# Altium integrated library Altium_WCAP-CSGP (rev20a).IntLib: 939 symbols (part 12 of 16)
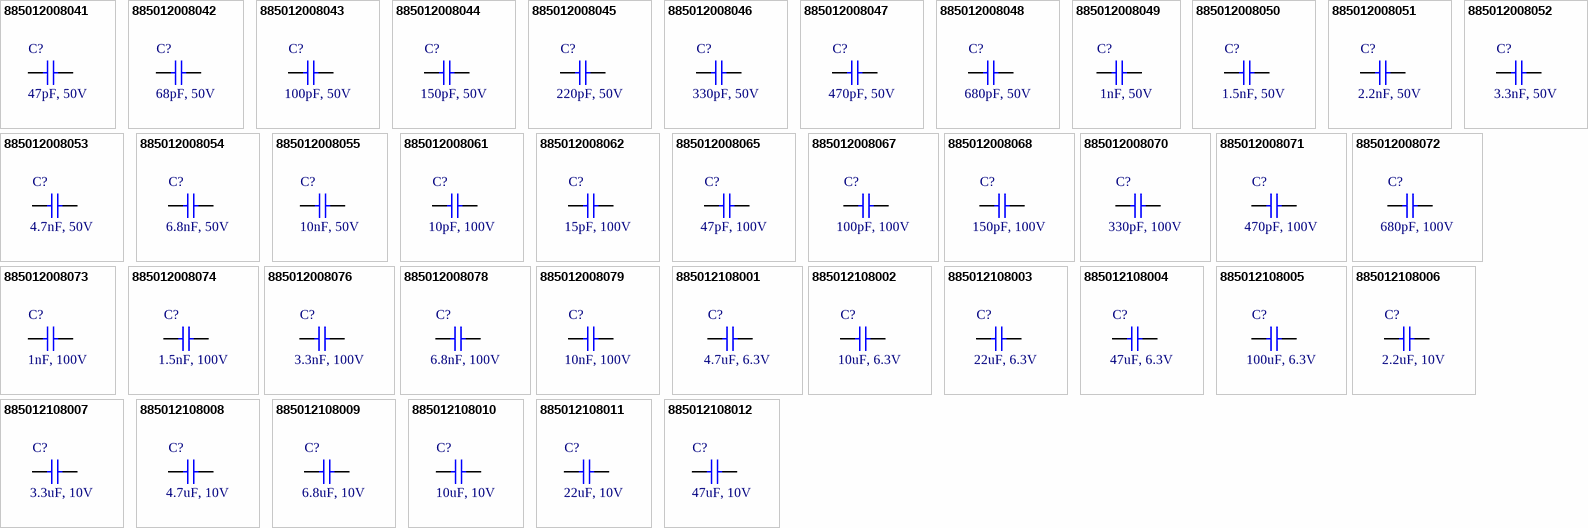
[diagram p38: symbols 885012008041 to 885012108012]

## 885012008054
designator C?, comment 6.8nF, 50V
WCAP-CSGP Multilayer Ceramic Chip Capacitor, General Purpose, size 1206, NP0, 6.8nF, 50V; Manufacturer Part Number: 885012008054; Manufacturer: Wurth Elektronik; Rated Voltage: 50VDC; Isolation Resistance: >=10GOhm; Capacitance Tolerance: +/-5%; Dissipation Factor: Q>=1000; Technical Reference: NP01206682J050DFCT10000; ComponentLink1Description: Manufacturer; ComponentLink1URL: http://www.we-online.de; ComponentLink2Description: Datasheet; ComponentLink2URL: https://www.we-online.com/catalog/datasheet/885012008054.pdf; Operating Temperature: -55 to +125degC; Packaging: Tape and Reel; Published Date: May 2020; Ceramic Type: NP0; Height: 0.95mm; Mounting Technology: SMT; Size: 1206; Capacitance: 6.8nF
footprint WCAP-CSGP_1206_H=0.95mm
pins: 1, 2

## 885012008055
designator C?, comment 10nF, 50V
WCAP-CSGP Multilayer Ceramic Chip Capacitor, General Purpose, size 1206, NP0, 10nF, 50V; Manufacturer Part Number: 885012008055; Manufacturer: Wurth Elektronik; Rated Voltage: 50VDC; Isolation Resistance: >=10GOhm; Capacitance Tolerance: +/-5%; Dissipation Factor: Q>=1000; Technical Reference: NP01206103J050DFCT10000; ComponentLink1Description: Manufacturer; ComponentLink1URL: http://www.we-online.de; ComponentLink2Description: Datasheet; ComponentLink2URL: https://www.we-online.com/catalog/datasheet/885012008055.pdf; Operating Temperature: -55 to +125degC; Packaging: Tape and Reel; Published Date: May 2020; Ceramic Type: NP0; Height: 1.25mm; Mounting Technology: SMT; Size: 1206; Capacitance: 10nF
footprint WCAP-CSGP_1206_H=1.25mm
pins: 1, 2

## 885012008061
designator C?, comment 10pF, 100V
WCAP-CSGP Multilayer Ceramic Chip Capacitor, General Purpose, size 1206, NP0, 10pF, 100V; Manufacturer Part Number: 885012008061; Manufacturer: Wurth Elektronik; Rated Voltage: 100VDC; Isolation Resistance: >=10GOhm; Capacitance Tolerance: +/-5%; Dissipation Factor: Q>=400+20C; Technical Reference: NP01206100J100DFCT10000; ComponentLink1Description: Manufacturer; ComponentLink1URL: http://www.we-online.de; ComponentLink2Description: Datasheet; ComponentLink2URL: https://www.we-online.com/catalog/datasheet/885012008061.pdf; Operating Temperature: -55 to +125degC; Packaging: Tape and Reel; Published Date: May 2020; Ceramic Type: NP0; Height: 0.8mm; Mounting Technology: SMT; Size: 1206; Capacitance: 10pF
footprint WCAP-CSGP_1206_H=0.8mm
pins: 1, 2

## 885012008062
designator C?, comment 15pF, 100V
WCAP-CSGP Multilayer Ceramic Chip Capacitor, General Purpose, size 1206, NP0, 15pF, 100V; Manufacturer Part Number: 885012008062; Manufacturer: Wurth Elektronik; Rated Voltage: 100VDC; Isolation Resistance: >=10GOhm; Capacitance Tolerance: +/-5%; Dissipation Factor: Q>=400+20C; Technical Reference: NP01206150J100DFCT10000; ComponentLink1Description: Manufacturer; ComponentLink1URL: http://www.we-online.de; ComponentLink2Description: Datasheet; ComponentLink2URL: https://www.we-online.com/catalog/datasheet/885012008062.pdf; Operating Temperature: -55 to +125degC; Packaging: Tape and Reel; Published Date: May 2020; Ceramic Type: NP0; Height: 0.8mm; Mounting Technology: SMT; Size: 1206; Capacitance: 15pF
footprint WCAP-CSGP_1206_H=0.8mm
pins: 1, 2

## 885012008065
designator C?, comment 47pF, 100V
WCAP-CSGP Multilayer Ceramic Chip Capacitor, General Purpose, size 1206, NP0, 47pF, 100V; Manufacturer Part Number: 885012008065; Manufacturer: Wurth Elektronik; Rated Voltage: 100VDC; Isolation Resistance: >=10GOhm; Capacitance Tolerance: +/-5%; Dissipation Factor: Q>=1000; Technical Reference: NP01206470J100DFCT10000; ComponentLink1Description: Manufacturer; ComponentLink1URL: http://www.we-online.de; ComponentLink2Description: Datasheet; ComponentLink2URL: https://www.we-online.com/catalog/datasheet/885012008065.pdf; Operating Temperature: -55 to +125degC; Packaging: Tape and Reel; Published Date: May 2020; Ceramic Type: NP0; Height: 0.8mm; Mounting Technology: SMT; Size: 1206; Capacitance: 47pF
footprint WCAP-CSGP_1206_H=0.8mm
pins: 1, 2

## 885012008067
designator C?, comment 100pF, 100V
WCAP-CSGP Multilayer Ceramic Chip Capacitor, General Purpose, size 1206, NP0, 100pF, 100V; Manufacturer Part Number: 885012008067; Manufacturer: Wurth Elektronik; Rated Voltage: 100VDC; Isolation Resistance: >=10GOhm; Capacitance Tolerance: +/-5%; Dissipation Factor: Q>=1000; Technical Reference: NP01206101J100DFCT10000; ComponentLink1Description: Manufacturer; ComponentLink1URL: http://www.we-online.de; ComponentLink2Description: Datasheet; ComponentLink2URL: https://www.we-online.com/catalog/datasheet/885012008067.pdf; Operating Temperature: -55 to +125degC; Packaging: Tape and Reel; Published Date: May 2020; Ceramic Type: NP0; Height: 0.8mm; Mounting Technology: SMT; Size: 1206; Capacitance: 100pF
footprint WCAP-CSGP_1206_H=0.8mm
pins: 1, 2

## 885012008068
designator C?, comment 150pF, 100V
WCAP-CSGP Multilayer Ceramic Chip Capacitor, General Purpose, size 1206, NP0, 150pF, 100V; Manufacturer Part Number: 885012008068; Manufacturer: Wurth Elektronik; Rated Voltage: 100VDC; Isolation Resistance: >=10GOhm; Capacitance Tolerance: +/-5%; Dissipation Factor: Q>=1000; Technical Reference: NP01206151J100DFCT10000; ComponentLink1Description: Manufacturer; ComponentLink1URL: http://www.we-online.de; ComponentLink2Description: Datasheet; ComponentLink2URL: https://www.we-online.com/catalog/datasheet/885012008068.pdf; Operating Temperature: -55 to +125degC; Packaging: Tape and Reel; Published Date: May 2020; Ceramic Type: NP0; Height: 0.8mm; Mounting Technology: SMT; Size: 1206; Capacitance: 150pF
footprint WCAP-CSGP_1206_H=0.8mm
pins: 1, 2

## 885012008070
designator C?, comment 330pF, 100V
WCAP-CSGP Multilayer Ceramic Chip Capacitor, General Purpose, size 1206, NP0, 330pF, 100V; Manufacturer Part Number: 885012008070; Manufacturer: Wurth Elektronik; Rated Voltage: 100VDC; Isolation Resistance: >=10GOhm; Capacitance Tolerance: +/-5%; Dissipation Factor: Q>=1000; Technical Reference: NP01206331J100DFCT10000; ComponentLink1Description: Manufacturer; ComponentLink1URL: http://www.we-online.de; ComponentLink2Description: Datasheet; ComponentLink2URL: https://www.we-online.com/catalog/datasheet/885012008070.pdf; Operating Temperature: -55 to +125degC; Packaging: Tape and Reel; Published Date: May 2020; Ceramic Type: NP0; Height: 0.8mm; Mounting Technology: SMT; Size: 1206; Capacitance: 330pF
footprint WCAP-CSGP_1206_H=0.8mm
pins: 1, 2

## 885012008071
designator C?, comment 470pF, 100V
WCAP-CSGP Multilayer Ceramic Chip Capacitor, General Purpose, size 1206, NP0, 470pF, 100V; Manufacturer Part Number: 885012008071; Manufacturer: Wurth Elektronik; Rated Voltage: 100VDC; Isolation Resistance: >=10GOhm; Capacitance Tolerance: +/-5%; Dissipation Factor: Q>=1000; Technical Reference: NP01206471J100DFCT10000; ComponentLink1Description: Manufacturer; ComponentLink1URL: http://www.we-online.de; ComponentLink2Description: Datasheet; ComponentLink2URL: https://www.we-online.com/catalog/datasheet/885012008071.pdf; Operating Temperature: -55 to +125degC; Packaging: Tape and Reel; Published Date: May 2020; Ceramic Type: NP0; Height: 0.8mm; Mounting Technology: SMT; Size: 1206; Capacitance: 470pF
footprint WCAP-CSGP_1206_H=0.8mm
pins: 1, 2

## 885012008072
designator C?, comment 680pF, 100V
WCAP-CSGP Multilayer Ceramic Chip Capacitor, General Purpose, size 1206, NP0, 680pF, 100V; Manufacturer Part Number: 885012008072; Manufacturer: Wurth Elektronik; Rated Voltage: 100VDC; Isolation Resistance: >=10GOhm; Capacitance Tolerance: +/-5%; Dissipation Factor: Q>=1000; Technical Reference: NP01206681J100DFCT10000; ComponentLink1Description: Manufacturer; ComponentLink1URL: http://www.we-online.de; ComponentLink2Description: Datasheet; ComponentLink2URL: https://www.we-online.com/catalog/datasheet/885012008072.pdf; Operating Temperature: -55 to +125degC; Packaging: Tape and Reel; Published Date: May 2020; Ceramic Type: NP0; Height: 0.8mm; Mounting Technology: SMT; Size: 1206; Capacitance: 680pF
footprint WCAP-CSGP_1206_H=0.8mm
pins: 1, 2

## 885012008073
designator C?, comment 1nF, 100V
WCAP-CSGP Multilayer Ceramic Chip Capacitor, General Purpose, size 1206, NP0, 1nF, 100V; Manufacturer Part Number: 885012008073; Manufacturer: Wurth Elektronik; Rated Voltage: 100VDC; Isolation Resistance: >=10GOhm; Capacitance Tolerance: +/-5%; Dissipation Factor: Q>=1000; Technical Reference: NP01206102J100DFCT10000; ComponentLink1Description: Manufacturer; ComponentLink1URL: http://www.we-online.de; ComponentLink2Description: Datasheet; ComponentLink2URL: https://www.we-online.com/catalog/datasheet/885012008073.pdf; Operating Temperature: -55 to +125degC; Packaging: Tape and Reel; Published Date: May 2020; Ceramic Type: NP0; Height: 0.8mm; Mounting Technology: SMT; Size: 1206; Capacitance: 1nF
footprint WCAP-CSGP_1206_H=0.8mm
pins: 1, 2

## 885012008074
designator C?, comment 1.5nF, 100V
WCAP-CSGP Multilayer Ceramic Chip Capacitor, General Purpose, size 1206, NP0, 1.5nF, 100V; Manufacturer Part Number: 885012008074; Manufacturer: Wurth Elektronik; Rated Voltage: 100VDC; Isolation Resistance: >=10GOhm; Capacitance Tolerance: +/-5%; Dissipation Factor: Q>=1000; Technical Reference: NP01206152J100DFCT10000; ComponentLink1Description: Manufacturer; ComponentLink1URL: http://www.we-online.de; ComponentLink2Description: Datasheet; ComponentLink2URL: https://www.we-online.com/catalog/datasheet/885012008074.pdf; Operating Temperature: -55 to +125degC; Packaging: Tape and Reel; Published Date: May 2020; Ceramic Type: NP0; Height: 0.8mm; Mounting Technology: SMT; Size: 1206; Capacitance: 1.5nF
footprint WCAP-CSGP_1206_H=0.8mm
pins: 1, 2

## 885012008076
designator C?, comment 3.3nF, 100V
WCAP-CSGP Multilayer Ceramic Chip Capacitor, General Purpose, size 1206, NP0, 3.3nF, 100V; Manufacturer Part Number: 885012008076; Manufacturer: Wurth Elektronik; Rated Voltage: 100VDC; Isolation Resistance: >=10GOhm; Capacitance Tolerance: +/-5%; Dissipation Factor: Q>=1000; Technical Reference: NP01206332J100DFCT10000; ComponentLink1Description: Manufacturer; ComponentLink1URL: http://www.we-online.de; ComponentLink2Description: Datasheet; ComponentLink2URL: https://www.we-online.com/catalog/datasheet/885012008076.pdf; Operating Temperature: -55 to +125degC; Packaging: Tape and Reel; Published Date: May 2020; Ceramic Type: NP0; Height: 0.8mm; Mounting Technology: SMT; Size: 1206; Capacitance: 3.3nF
footprint WCAP-CSGP_1206_H=0.8mm
pins: 1, 2

## 885012008078
designator C?, comment 6.8nF, 100V
WCAP-CSGP Multilayer Ceramic Chip Capacitor, General Purpose, size 1206, NP0, 6.8nF, 100V; Manufacturer Part Number: 885012008078; Manufacturer: Wurth Elektronik; Rated Voltage: 100VDC; Isolation Resistance: >=10GOhm; Capacitance Tolerance: +/-5%; Dissipation Factor: Q>=1000; Technical Reference: NP01206682J100DFCT10000; ComponentLink1Description: Manufacturer; ComponentLink1URL: http://www.we-online.de; ComponentLink2Description: Datasheet; ComponentLink2URL: https://www.we-online.com/catalog/datasheet/885012008078.pdf; Operating Temperature: -55 to +125degC; Packaging: Tape and Reel; Published Date: May 2020; Ceramic Type: NP0; Height: 0.95mm; Mounting Technology: SMT; Size: 1206; Capacitance: 6.8nF
footprint WCAP-CSGP_1206_H=0.95mm
pins: 1, 2

## 885012008079
designator C?, comment 10nF, 100V
WCAP-CSGP Multilayer Ceramic Chip Capacitor, General Purpose, size 1206, NP0, 10nF, 100V; Manufacturer Part Number: 885012008079; Manufacturer: Wurth Elektronik; Rated Voltage: 100VDC; Isolation Resistance: >=10GOhm; Capacitance Tolerance: +/-5%; Dissipation Factor: Q>=1000; Technical Reference: NP01206103J100DFCT10000; ComponentLink1Description: Manufacturer; ComponentLink1URL: http://www.we-online.de; ComponentLink2Description: Datasheet; ComponentLink2URL: https://www.we-online.com/catalog/datasheet/885012008079.pdf; Operating Temperature: -55 to +125degC; Packaging: Tape and Reel; Published Date: May 2020; Ceramic Type: NP0; Height: 1.25mm; Mounting Technology: SMT; Size: 1206; Capacitance: 10nF
footprint WCAP-CSGP_1206_H=1.25mm
pins: 1, 2

## 885012108001
designator C?, comment 4.7uF, 6.3V
WCAP-CSGP Multilayer Ceramic Chip Capacitor, General Purpose, size 1206, X5R, 4.7uF, 6.3V; Manufacturer Part Number: 885012108001; Manufacturer: Wurth Elektronik; Rated Voltage: 6.3VDC; Isolation Resistance: >=0.02GOhm; Capacitance Tolerance: +/-20%; Technical Reference: X5R1206475M6R3DFCT10000; ComponentLink1Description: Manufacturer; ComponentLink1URL: http://www.we-online.de; ComponentLink2Description: Datasheet; ComponentLink2URL: https://www.we-online.com/catalog/datasheet/885012108001.pdf; Operating Temperature: -55 to +85degC; Packaging: Tape and Reel; Published Date: May 2020; Ceramic Type: X5R; Dissipation Factor: =<10%; Height: 1.6mm; Mounting Technology: SMT; Size: 1206; Capacitance: 4.7uF
footprint WCAP-CSGP_1206_H=1.6mm
pins: 1, 2

## 885012108002
designator C?, comment 10uF, 6.3V
WCAP-CSGP Multilayer Ceramic Chip Capacitor, General Purpose, size 1206, X5R, 10uF, 6.3V; Manufacturer Part Number: 885012108002; Manufacturer: Wurth Elektronik; Rated Voltage: 6.3VDC; Isolation Resistance: >=0.005GOhm; Capacitance Tolerance: +/-20%; Technical Reference: X5R1206106M6R3DFCT10000; ComponentLink1Description: Manufacturer; ComponentLink1URL: http://www.we-online.de; ComponentLink2Description: Datasheet; ComponentLink2URL: https://www.we-online.com/catalog/datasheet/885012108002.pdf; Operating Temperature: -55 to +85degC; Packaging: Tape and Reel; Published Date: May 2020; Ceramic Type: X5R; Dissipation Factor: =<10%; Height: 1.6mm; Mounting Technology: SMT; Size: 1206; Capacitance: 10uF
footprint WCAP-CSGP_1206_H=1.6mm
pins: 1, 2

## 885012108003
designator C?, comment 22uF, 6.3V
WCAP-CSGP Multilayer Ceramic Chip Capacitor, General Purpose, size 1206, X5R, 22uF, 6.3V; Manufacturer Part Number: 885012108003; Manufacturer: Wurth Elektronik; Rated Voltage: 6.3VDC; Isolation Resistance: >=0.002GOhm; Capacitance Tolerance: +/-20%; Technical Reference: X5R1206226M6R3DFCT10000; ComponentLink1Description: Manufacturer; ComponentLink1URL: http://www.we-online.de; ComponentLink2Description: Datasheet; ComponentLink2URL: https://www.we-online.com/catalog/datasheet/885012108003.pdf; Operating Temperature: -55 to +85degC; Packaging: Tape and Reel; Published Date: May 2020; Ceramic Type: X5R; Dissipation Factor: =<10%; Height: 1.6mm; Mounting Technology: SMT; Size: 1206; Capacitance: 22uF
footprint WCAP-CSGP_1206_H=1.6mm
pins: 1, 2

## 885012108004
designator C?, comment 47uF, 6.3V
WCAP-CSGP Multilayer Ceramic Chip Capacitor, General Purpose, size 1206, X5R, 47uF, 6.3V; Manufacturer Part Number: 885012108004; Manufacturer: Wurth Elektronik; Rated Voltage: 6.3VDC; Isolation Resistance: >=0.002GOhm; Capacitance Tolerance: +/-20%; Technical Reference: X5R1206476M6R3DFCT10000; ComponentLink1Description: Manufacturer; ComponentLink1URL: http://www.we-online.de; ComponentLink2Description: Datasheet; ComponentLink2URL: https://www.we-online.com/catalog/datasheet/885012108004.pdf; Operating Temperature: -55 to +85degC; Packaging: Tape and Reel; Published Date: May 2020; Ceramic Type: X5R; Dissipation Factor: =<10%; Height: 1.6mm; Mounting Technology: SMT; Size: 1206; Capacitance: 47uF
footprint WCAP-CSGP_1206_H=1.6mm
pins: 1, 2

## 885012108005
designator C?, comment 100uF, 6.3V
WCAP-CSGP Multilayer Ceramic Chip Capacitor, General Purpose, size 1206, X5R, 100uF, 6.3V; Manufacturer Part Number: 885012108005; Manufacturer: Wurth Elektronik; Rated Voltage: 6.3VDC; Isolation Resistance: >=0.001GOhm; Capacitance Tolerance: +/-20%; Technical Reference: X5R1206107M6R3DFCT10000; ComponentLink1Description: Manufacturer; ComponentLink1URL: http://www.we-online.de; ComponentLink2Description: Datasheet; ComponentLink2URL: https://www.we-online.com/catalog/datasheet/885012108005.pdf; Operating Temperature: -55 to +85degC; Packaging: Tape and Reel; Published Date: May 2020; Ceramic Type: X5R; Dissipation Factor: =<10%; Height: 1.6mm; Mounting Technology: SMT; Size: 1206; Capacitance: 100uF
footprint WCAP-CSGP_1206_H=1.6mm
pins: 1, 2

## 885012108006
designator C?, comment 2.2uF, 10V
WCAP-CSGP Multilayer Ceramic Chip Capacitor, General Purpose, size 1206, X5R, 2.2uF, 10V; Manufacturer Part Number: 885012108006; Manufacturer: Wurth Elektronik; Rated Voltage: 10VDC; Isolation Resistance: >=0.2GOhm; Capacitance Tolerance: +/-20%; Technical Reference: X5R1206225M010DFCT10000; ComponentLink1Description: Manufacturer; ComponentLink1URL: http://www.we-online.de; ComponentLink2Description: Datasheet; ComponentLink2URL: https://www.we-online.com/catalog/datasheet/885012108006.pdf; Operating Temperature: -55 to +85degC; Packaging: Tape and Reel; Published Date: May 2020; Ceramic Type: X5R; Dissipation Factor: =<10%; Height: 1.15mm; Mounting Technology: SMT; Size: 1206; Capacitance: 2.2uF
footprint WCAP-CSGP_1206_H=1.15mm
pins: 1, 2

## 885012108007
designator C?, comment 3.3uF, 10V
WCAP-CSGP Multilayer Ceramic Chip Capacitor, General Purpose, size 1206, X5R, 3.3uF, 10V; Manufacturer Part Number: 885012108007; Manufacturer: Wurth Elektronik; Rated Voltage: 10VDC; Isolation Resistance: >=0.2GOhm; Capacitance Tolerance: +/-20%; Technical Reference: X5R1206335M010DFCT10000; ComponentLink1Description: Manufacturer; ComponentLink1URL: http://www.we-online.de; ComponentLink2Description: Datasheet; ComponentLink2URL: https://www.we-online.com/catalog/datasheet/885012108007.pdf; Operating Temperature: -55 to +85degC; Packaging: Tape and Reel; Published Date: May 2020; Ceramic Type: X5R; Dissipation Factor: =<10%; Height: 1.6mm; Mounting Technology: SMT; Size: 1206; Capacitance: 3.3uF
footprint WCAP-CSGP_1206_H=1.6mm
pins: 1, 2

## 885012108008
designator C?, comment 4.7uF, 10V
WCAP-CSGP Multilayer Ceramic Chip Capacitor, General Purpose, size 1206, X5R, 4.7uF, 10V; Manufacturer Part Number: 885012108008; Manufacturer: Wurth Elektronik; Rated Voltage: 10VDC; Isolation Resistance: >=0.02GOhm; Capacitance Tolerance: +/-20%; Technical Reference: X5R1206475M010DFCT10000; ComponentLink1Description: Manufacturer; ComponentLink1URL: http://www.we-online.de; ComponentLink2Description: Datasheet; ComponentLink2URL: https://www.we-online.com/catalog/datasheet/885012108008.pdf; Operating Temperature: -55 to +85degC; Packaging: Tape and Reel; Published Date: May 2020; Ceramic Type: X5R; Dissipation Factor: =<10%; Height: 1.6mm; Mounting Technology: SMT; Size: 1206; Capacitance: 4.7uF
footprint WCAP-CSGP_1206_H=1.6mm
pins: 1, 2

## 885012108009
designator C?, comment 6.8uF, 10V
WCAP-CSGP Multilayer Ceramic Chip Capacitor, General Purpose, size 1206, X5R, 6.8uF, 10V; Manufacturer Part Number: 885012108009; Manufacturer: Wurth Elektronik; Rated Voltage: 10VDC; Isolation Resistance: >=0.02GOhm; Capacitance Tolerance: +/-20%; Technical Reference: X5R1206685M010DFCT10000; ComponentLink1Description: Manufacturer; ComponentLink1URL: http://www.we-online.de; ComponentLink2Description: Datasheet; ComponentLink2URL: https://www.we-online.com/catalog/datasheet/885012108009.pdf; Operating Temperature: -55 to +85degC; Packaging: Tape and Reel; Published Date: May 2020; Ceramic Type: X5R; Dissipation Factor: =<10%; Height: 1.6mm; Mounting Technology: SMT; Size: 1206; Capacitance: 6.8uF
footprint WCAP-CSGP_1206_H=1.6mm
pins: 1, 2

## 885012108010
designator C?, comment 10uF, 10V
WCAP-CSGP Multilayer Ceramic Chip Capacitor, General Purpose, size 1206, X5R, 10uF, 10V; Manufacturer Part Number: 885012108010; Manufacturer: Wurth Elektronik; Rated Voltage: 10VDC; Isolation Resistance: >=0.01GOhm; Capacitance Tolerance: +/-20%; Technical Reference: X5R1206106M010DFCT10000; ComponentLink1Description: Manufacturer; ComponentLink1URL: http://www.we-online.de; ComponentLink2Description: Datasheet; ComponentLink2URL: https://www.we-online.com/catalog/datasheet/885012108010.pdf; Operating Temperature: -55 to +85degC; Packaging: Tape and Reel; Published Date: May 2020; Ceramic Type: X5R; Dissipation Factor: =<10%; Height: 1.6mm; Mounting Technology: SMT; Size: 1206; Capacitance: 10uF
footprint WCAP-CSGP_1206_H=1.6mm
pins: 1, 2

## 885012108011
designator C?, comment 22uF, 10V
WCAP-CSGP Multilayer Ceramic Chip Capacitor, General Purpose, size 1206, X5R, 22uF, 10V; Manufacturer Part Number: 885012108011; Manufacturer: Wurth Elektronik; Rated Voltage: 10VDC; Isolation Resistance: >=0.005GOhm; Capacitance Tolerance: +/-20%; Technical Reference: X5R1206226M010DFCT10000; ComponentLink1Description: Manufacturer; ComponentLink1URL: http://www.we-online.de; ComponentLink2Description: Datasheet; ComponentLink2URL: https://www.we-online.com/catalog/datasheet/885012108011.pdf; Operating Temperature: -55 to +85degC; Packaging: Tape and Reel; Published Date: May 2020; Ceramic Type: X5R; Dissipation Factor: =<10%; Height: 1.6mm; Mounting Technology: SMT; Size: 1206; Capacitance: 22uF
footprint WCAP-CSGP_1206_H=1.6mm
pins: 1, 2

## 885012108012
designator C?, comment 47uF, 10V
WCAP-CSGP Multilayer Ceramic Chip Capacitor, General Purpose, size 1206, X5R, 47uF, 10V; Manufacturer Part Number: 885012108012; Manufacturer: Wurth Elektronik; Rated Voltage: 10VDC; Isolation Resistance: >=0.002GOhm; Capacitance Tolerance: +/-20%; Technical Reference: X5R1206476M010DFCT10000; ComponentLink1Description: Manufacturer; ComponentLink1URL: http://www.we-online.de; ComponentLink2Description: Datasheet; ComponentLink2URL: https://www.we-online.com/catalog/datasheet/885012108012.pdf; Operating Temperature: -55 to +85degC; Packaging: Tape and Reel; Published Date: May 2020; Ceramic Type: X5R; Dissipation Factor: =<10%; Height: 1.6mm; Mounting Technology: SMT; Size: 1206; Capacitance: 47uF
footprint WCAP-CSGP_1206_H=1.6mm
pins: 1, 2

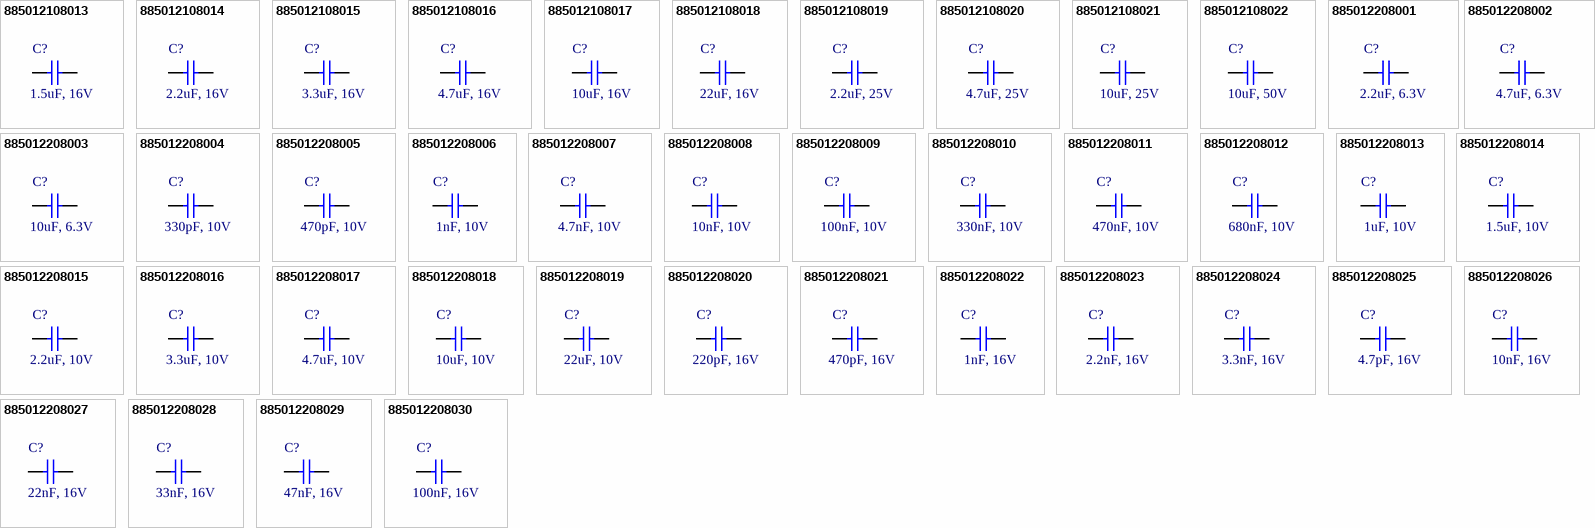
[diagram p19: symbols 885012108013 to 885012208030]

## 885012108013
designator C?, comment 1.5uF, 16V
WCAP-CSGP Multilayer Ceramic Chip Capacitor, General Purpose, size 1206, X5R, 1.5uF, 16V; Manufacturer Part Number: 885012108013; Manufacturer: Wurth Elektronik; Rated Voltage: 16VDC; Isolation Resistance: >=0.3GOhm; Capacitance Tolerance: +/-20%; Technical Reference: X5R1206155M016DFCT10000; ComponentLink1Description: Manufacturer; ComponentLink1URL: http://www.we-online.de; ComponentLink2Description: Datasheet; ComponentLink2URL: https://www.we-online.com/catalog/datasheet/885012108013.pdf; Operating Temperature: -55 to +85degC; Packaging: Tape and Reel; Published Date: May 2020; Ceramic Type: X5R; Dissipation Factor: =<3.5%; Height: 1.15mm; Mounting Technology: SMT; Size: 1206; Capacitance: 1.5uF
footprint WCAP-CSGP_1206_H=1.15mm
pins: 1, 2

## 885012108014
designator C?, comment 2.2uF, 16V
WCAP-CSGP Multilayer Ceramic Chip Capacitor, General Purpose, size 1206, X5R, 2.2uF, 16V; Manufacturer Part Number: 885012108014; Manufacturer: Wurth Elektronik; Rated Voltage: 16VDC; Isolation Resistance: >=0.2GOhm; Capacitance Tolerance: +/-20%; Technical Reference: X5R1206225M016DFCT10000; ComponentLink1Description: Manufacturer; ComponentLink1URL: http://www.we-online.de; ComponentLink2Description: Datasheet; ComponentLink2URL: https://www.we-online.com/catalog/datasheet/885012108014.pdf; Operating Temperature: -55 to +85degC; Packaging: Tape and Reel; Published Date: May 2020; Ceramic Type: X5R; Dissipation Factor: =<5%; Height: 1.15mm; Mounting Technology: SMT; Size: 1206; Capacitance: 2.2uF
footprint WCAP-CSGP_1206_H=1.15mm
pins: 1, 2

## 885012108015
designator C?, comment 3.3uF, 16V
WCAP-CSGP Multilayer Ceramic Chip Capacitor, General Purpose, size 1206, X5R, 3.3uF, 16V; Manufacturer Part Number: 885012108015; Manufacturer: Wurth Elektronik; Rated Voltage: 16VDC; Isolation Resistance: >=0.2GOhm; Capacitance Tolerance: +/-20%; Technical Reference: X5R1206335M016DFCT10000; ComponentLink1Description: Manufacturer; ComponentLink1URL: http://www.we-online.de; ComponentLink2Description: Datasheet; ComponentLink2URL: https://www.we-online.com/catalog/datasheet/885012108015.pdf; Operating Temperature: -55 to +85degC; Packaging: Tape and Reel; Published Date: May 2020; Ceramic Type: X5R; Dissipation Factor: =<5%; Height: 1.6mm; Mounting Technology: SMT; Size: 1206; Capacitance: 3.3uF
footprint WCAP-CSGP_1206_H=1.6mm
pins: 1, 2

## 885012108016
designator C?, comment 4.7uF, 16V
WCAP-CSGP Multilayer Ceramic Chip Capacitor, General Purpose, size 1206, X5R, 4.7uF, 16V; Manufacturer Part Number: 885012108016; Manufacturer: Wurth Elektronik; Rated Voltage: 16VDC; Isolation Resistance: >=0.1GOhm; Capacitance Tolerance: +/-20%; Technical Reference: X5R1206475M016DFCT10000; ComponentLink1Description: Manufacturer; ComponentLink1URL: http://www.we-online.de; ComponentLink2Description: Datasheet; ComponentLink2URL: https://www.we-online.com/catalog/datasheet/885012108016.pdf; Operating Temperature: -55 to +85degC; Packaging: Tape and Reel; Published Date: May 2020; Ceramic Type: X5R; Dissipation Factor: =<10%; Height: 1.6mm; Mounting Technology: SMT; Size: 1206; Capacitance: 4.7uF
footprint WCAP-CSGP_1206_H=1.6mm
pins: 1, 2

## 885012108017
designator C?, comment 10uF, 16V
WCAP-CSGP Multilayer Ceramic Chip Capacitor, General Purpose, size 1206, X5R, 10uF, 16V; Manufacturer Part Number: 885012108017; Manufacturer: Wurth Elektronik; Rated Voltage: 16VDC; Isolation Resistance: >=0.01GOhm; Capacitance Tolerance: +/-20%; Technical Reference: X5R1206106M016DFCT10000; ComponentLink1Description: Manufacturer; ComponentLink1URL: http://www.we-online.de; ComponentLink2Description: Datasheet; ComponentLink2URL: https://www.we-online.com/catalog/datasheet/885012108017.pdf; Operating Temperature: -55 to +85degC; Packaging: Tape and Reel; Published Date: May 2020; Ceramic Type: X5R; Dissipation Factor: =<10%; Height: 1.6mm; Mounting Technology: SMT; Size: 1206; Capacitance: 10uF
footprint WCAP-CSGP_1206_H=1.6mm
pins: 1, 2

## 885012108018
designator C?, comment 22uF, 16V
WCAP-CSGP Multilayer Ceramic Chip Capacitor, General Purpose, size 1206, X5R, 22uF, 16V; Manufacturer Part Number: 885012108018; Manufacturer: Wurth Elektronik; Rated Voltage: 16VDC; Isolation Resistance: >=0.005GOhm; Capacitance Tolerance: +/-20%; Technical Reference: X5R1206226M016DFCT10000; ComponentLink1Description: Manufacturer; ComponentLink1URL: http://www.we-online.de; ComponentLink2Description: Datasheet; ComponentLink2URL: https://www.we-online.com/catalog/datasheet/885012108018.pdf; Operating Temperature: -55 to +85degC; Packaging: Tape and Reel; Published Date: May 2020; Ceramic Type: X5R; Dissipation Factor: =<10%; Height: 1.6mm; Mounting Technology: SMT; Size: 1206; Capacitance: 22uF
footprint WCAP-CSGP_1206_H=1.6mm
pins: 1, 2

## 885012108019
designator C?, comment 2.2uF, 25V
WCAP-CSGP Multilayer Ceramic Chip Capacitor, General Purpose, size 1206, X5R, 2.2uF, 25V; Manufacturer Part Number: 885012108019; Manufacturer: Wurth Elektronik; Rated Voltage: 25VDC; Isolation Resistance: >=0.2GOhm; Capacitance Tolerance: +/-20%; Technical Reference: X5R1206225M025DFCT10000; ComponentLink1Description: Manufacturer; ComponentLink1URL: http://www.we-online.de; ComponentLink2Description: Datasheet; ComponentLink2URL: https://www.we-online.com/catalog/datasheet/885012108019.pdf; Operating Temperature: -55 to +85degC; Packaging: Tape and Reel; Published Date: May 2020; Ceramic Type: X5R; Dissipation Factor: =<3.5%; Height: 1.6mm; Mounting Technology: SMT; Size: 1206; Capacitance: 2.2uF
footprint WCAP-CSGP_1206_H=1.6mm
pins: 1, 2

## 885012108020
designator C?, comment 4.7uF, 25V
WCAP-CSGP Multilayer Ceramic Chip Capacitor, General Purpose, size 1206, X5R, 4.7uF, 25V; Manufacturer Part Number: 885012108020; Manufacturer: Wurth Elektronik; Rated Voltage: 25VDC; Isolation Resistance: >=0.1GOhm; Capacitance Tolerance: +/-20%; Technical Reference: X5R1206475M025DFCT10000; ComponentLink1Description: Manufacturer; ComponentLink1URL: http://www.we-online.de; ComponentLink2Description: Datasheet; ComponentLink2URL: https://www.we-online.com/catalog/datasheet/885012108020.pdf; Operating Temperature: -55 to +85degC; Packaging: Tape and Reel; Published Date: May 2020; Ceramic Type: X5R; Dissipation Factor: =<7%; Height: 1.6mm; Mounting Technology: SMT; Size: 1206; Capacitance: 4.7uF
footprint WCAP-CSGP_1206_H=1.6mm
pins: 1, 2

## 885012108021
designator C?, comment 10uF, 25V
WCAP-CSGP Multilayer Ceramic Chip Capacitor, General Purpose, size 1206, X5R, 10uF, 25V; Manufacturer Part Number: 885012108021; Manufacturer: Wurth Elektronik; Rated Voltage: 25VDC; Isolation Resistance: >=0.01GOhm; Capacitance Tolerance: +/-20%; Technical Reference: X5R1206106M025DFCT10000; ComponentLink1Description: Manufacturer; ComponentLink1URL: http://www.we-online.de; ComponentLink2Description: Datasheet; ComponentLink2URL: https://www.we-online.com/catalog/datasheet/885012108021.pdf; Operating Temperature: -55 to +85degC; Packaging: Tape and Reel; Published Date: May 2020; Ceramic Type: X5R; Dissipation Factor: =<10%; Height: 1.6mm; Mounting Technology: SMT; Size: 1206; Capacitance: 10uF
footprint WCAP-CSGP_1206_H=1.6mm
pins: 1, 2

## 885012108022
designator C?, comment 10uF, 50V
WCAP-CSGP Multilayer Ceramic Chip Capacitor, General Purpose, size 1206, X5R, 10uF, 50V; Manufacturer Part Number: 885012108022; Manufacturer: Wurth Elektronik; Rated Voltage: 50VDC; Isolation Resistance: >=0.005GOhm; Capacitance Tolerance: +/-10%; Technical Reference: X5R1206106K050DFCT10000; ComponentLink1Description: Manufacturer; ComponentLink1URL: http://www.we-online.de; ComponentLink2Description: Datasheet; ComponentLink2URL: https://www.we-online.com/catalog/datasheet/885012108022.pdf; Operating Temperature: -55 to +85degC; Packaging: Tape and Reel; Published Date: May 2020; Ceramic Type: X5R; Dissipation Factor: =<10%; Height: 1.6mm; Mounting Technology: SMT; Size: 1206; Capacitance: 10uF
footprint WCAP-CSGP_1206_H=1.6mm
pins: 1, 2

## 885012208001
designator C?, comment 2.2uF, 6.3V
WCAP-CSGP Multilayer Ceramic Chip Capacitor, General Purpose, size 1206, X7R, 2.2uF, 6.3V; Manufacturer Part Number: 885012208001; Manufacturer: Wurth Elektronik; Rated Voltage: 6.3VDC; Isolation Resistance: >=0.05GOhm; Capacitance Tolerance: +/-10%; Technical Reference: X7R1206225K6R3DFCT10000; ComponentLink1Description: Manufacturer; ComponentLink1URL: http://www.we-online.de; ComponentLink2Description: Datasheet; ComponentLink2URL: https://www.we-online.com/catalog/datasheet/885012208001.pdf; Operating Temperature: -55 to +125degC; Packaging: Tape and Reel; Published Date: May 2020; Ceramic Type: X7R; Dissipation Factor: =<10%; Height: 1.15mm; Mounting Technology: SMT; Size: 1206; Capacitance: 2.2uF
footprint WCAP-CSGP_1206_H=1.15mm
pins: 1, 2

## 885012208002
designator C?, comment 4.7uF, 6.3V
WCAP-CSGP Multilayer Ceramic Chip Capacitor, General Purpose, size 1206, X7R, 4.7uF, 6.3V; Manufacturer Part Number: 885012208002; Manufacturer: Wurth Elektronik; Rated Voltage: 6.3VDC; Isolation Resistance: >=0.02GOhm; Capacitance Tolerance: +/-10%; Technical Reference: X7R1206475K6R3DFCT10000; ComponentLink1Description: Manufacturer; ComponentLink1URL: http://www.we-online.de; ComponentLink2Description: Datasheet; ComponentLink2URL: https://www.we-online.com/catalog/datasheet/885012208002.pdf; Operating Temperature: -55 to +125degC; Packaging: Tape and Reel; Published Date: May 2020; Ceramic Type: X7R; Dissipation Factor: =<10%; Height: 1.6mm; Mounting Technology: SMT; Size: 1206; Capacitance: 4.7uF
footprint WCAP-CSGP_1206_H=1.6mm
pins: 1, 2

## 885012208003
designator C?, comment 10uF, 6.3V
WCAP-CSGP Multilayer Ceramic Chip Capacitor, General Purpose, size 1206, X7R, 10uF, 6.3V; Manufacturer Part Number: 885012208003; Manufacturer: Wurth Elektronik; Rated Voltage: 6.3VDC; Isolation Resistance: >=0.005GOhm; Capacitance Tolerance: +/-10%; Technical Reference: X7R1206106K6R3DFCT10000; ComponentLink1Description: Manufacturer; ComponentLink1URL: http://www.we-online.de; ComponentLink2Description: Datasheet; ComponentLink2URL: https://www.we-online.com/catalog/datasheet/885012208003.pdf; Operating Temperature: -55 to +125degC; Packaging: Tape and Reel; Published Date: May 2020; Ceramic Type: X7R; Dissipation Factor: =<10%; Height: 1.6mm; Mounting Technology: SMT; Size: 1206; Capacitance: 10uF
footprint WCAP-CSGP_1206_H=1.6mm
pins: 1, 2

## 885012208004
designator C?, comment 330pF, 10V
WCAP-CSGP Multilayer Ceramic Chip Capacitor, General Purpose, size 1206, X7R, 330pF, 10V; Manufacturer Part Number: 885012208004; Manufacturer: Wurth Elektronik; Rated Voltage: 10VDC; Isolation Resistance: >=10GOhm; Capacitance Tolerance: +/-10%; Technical Reference: X7R1206331K010DFCT10000; ComponentLink1Description: Manufacturer; ComponentLink1URL: http://www.we-online.de; ComponentLink2Description: Datasheet; ComponentLink2URL: https://www.we-online.com/catalog/datasheet/885012208004.pdf; Operating Temperature: -55 to +125degC; Packaging: Tape and Reel; Published Date: May 2020; Ceramic Type: X7R; Dissipation Factor: =<5%; Height: 0.8mm; Mounting Technology: SMT; Size: 1206; Capacitance: 330pF
footprint WCAP-CSGP_1206_H=0.8mm
pins: 1, 2

## 885012208005
designator C?, comment 470pF, 10V
WCAP-CSGP Multilayer Ceramic Chip Capacitor, General Purpose, size 1206, X7R, 470pF, 10V; Manufacturer Part Number: 885012208005; Manufacturer: Wurth Elektronik; Rated Voltage: 10VDC; Isolation Resistance: >=10GOhm; Capacitance Tolerance: +/-10%; Technical Reference: X7R1206471K010DFCT10000; ComponentLink1Description: Manufacturer; ComponentLink1URL: http://www.we-online.de; ComponentLink2Description: Datasheet; ComponentLink2URL: https://www.we-online.com/catalog/datasheet/885012208005.pdf; Operating Temperature: -55 to +125degC; Packaging: Tape and Reel; Published Date: May 2020; Ceramic Type: X7R; Dissipation Factor: =<5%; Height: 0.8mm; Mounting Technology: SMT; Size: 1206; Capacitance: 470pF
footprint WCAP-CSGP_1206_H=0.8mm
pins: 1, 2

## 885012208006
designator C?, comment 1nF, 10V
WCAP-CSGP Multilayer Ceramic Chip Capacitor, General Purpose, size 1206, X7R, 1nF, 10V; Manufacturer Part Number: 885012208006; Manufacturer: Wurth Elektronik; Rated Voltage: 10VDC; Isolation Resistance: >=10GOhm; Capacitance Tolerance: +/-10%; Technical Reference: X7R1206102K010DFCT10000; ComponentLink1Description: Manufacturer; ComponentLink1URL: http://www.we-online.de; ComponentLink2Description: Datasheet; ComponentLink2URL: https://www.we-online.com/catalog/datasheet/885012208006.pdf; Operating Temperature: -55 to +125degC; Packaging: Tape and Reel; Published Date: May 2020; Ceramic Type: X7R; Dissipation Factor: =<5%; Height: 0.8mm; Mounting Technology: SMT; Size: 1206; Capacitance: 1nF
footprint WCAP-CSGP_1206_H=0.8mm
pins: 1, 2

## 885012208007
designator C?, comment 4.7nF, 10V
WCAP-CSGP Multilayer Ceramic Chip Capacitor, General Purpose, size 1206, X7R, 4.7nF, 10V; Manufacturer Part Number: 885012208007; Manufacturer: Wurth Elektronik; Rated Voltage: 10VDC; Isolation Resistance: >=10GOhm; Capacitance Tolerance: +/-10%; Technical Reference: X7R1206472K010DFCT10000; ComponentLink1Description: Manufacturer; ComponentLink1URL: http://www.we-online.de; ComponentLink2Description: Datasheet; ComponentLink2URL: https://www.we-online.com/catalog/datasheet/885012208007.pdf; Operating Temperature: -55 to +125degC; Packaging: Tape and Reel; Published Date: May 2020; Ceramic Type: X7R; Dissipation Factor: =<5%; Height: 0.8mm; Mounting Technology: SMT; Size: 1206; Capacitance: 4.7nF
footprint WCAP-CSGP_1206_H=0.8mm
pins: 1, 2

## 885012208008
designator C?, comment 10nF, 10V
WCAP-CSGP Multilayer Ceramic Chip Capacitor, General Purpose, size 1206, X7R, 10nF, 10V; Manufacturer Part Number: 885012208008; Manufacturer: Wurth Elektronik; Rated Voltage: 10VDC; Isolation Resistance: >=10GOhm; Capacitance Tolerance: +/-10%; Technical Reference: X7R1206103K010DFCT10000; ComponentLink1Description: Manufacturer; ComponentLink1URL: http://www.we-online.de; ComponentLink2Description: Datasheet; ComponentLink2URL: https://www.we-online.com/catalog/datasheet/885012208008.pdf; Operating Temperature: -55 to +125degC; Packaging: Tape and Reel; Published Date: May 2020; Ceramic Type: X7R; Dissipation Factor: =<5%; Height: 0.8mm; Mounting Technology: SMT; Size: 1206; Capacitance: 10nF
footprint WCAP-CSGP_1206_H=0.8mm
pins: 1, 2

## 885012208009
designator C?, comment 100nF, 10V
WCAP-CSGP Multilayer Ceramic Chip Capacitor, General Purpose, size 1206, X7R, 100nF, 10V; Manufacturer Part Number: 885012208009; Manufacturer: Wurth Elektronik; Rated Voltage: 10VDC; Isolation Resistance: >=5GOhm; Capacitance Tolerance: +/-10%; Technical Reference: X7R1206104K010DFCT10000; ComponentLink1Description: Manufacturer; ComponentLink1URL: http://www.we-online.de; ComponentLink2Description: Datasheet; ComponentLink2URL: https://www.we-online.com/catalog/datasheet/885012208009.pdf; Operating Temperature: -55 to +125degC; Packaging: Tape and Reel; Published Date: May 2020; Ceramic Type: X7R; Dissipation Factor: =<5%; Height: 0.8mm; Mounting Technology: SMT; Size: 1206; Capacitance: 100nF
footprint WCAP-CSGP_1206_H=0.8mm
pins: 1, 2

## 885012208010
designator C?, comment 330nF, 10V
WCAP-CSGP Multilayer Ceramic Chip Capacitor, General Purpose, size 1206, X7R, 330nF, 10V; Manufacturer Part Number: 885012208010; Manufacturer: Wurth Elektronik; Rated Voltage: 10VDC; Isolation Resistance: >=1.5GOhm; Capacitance Tolerance: +/-10%; Technical Reference: X7R1206334K010DFCT10000; ComponentLink1Description: Manufacturer; ComponentLink1URL: http://www.we-online.de; ComponentLink2Description: Datasheet; ComponentLink2URL: https://www.we-online.com/catalog/datasheet/885012208010.pdf; Operating Temperature: -55 to +125degC; Packaging: Tape and Reel; Published Date: May 2020; Ceramic Type: X7R; Dissipation Factor: =<5%; Height: 0.95mm; Mounting Technology: SMT; Size: 1206; Capacitance: 330nF
footprint WCAP-CSGP_1206_H=0.95mm
pins: 1, 2

## 885012208011
designator C?, comment 470nF, 10V
WCAP-CSGP Multilayer Ceramic Chip Capacitor, General Purpose, size 1206, X7R, 470nF, 10V; Manufacturer Part Number: 885012208011; Manufacturer: Wurth Elektronik; Rated Voltage: 10VDC; Isolation Resistance: >=1.1GOhm; Capacitance Tolerance: +/-10%; Technical Reference: X7R1206474K010DFCT10000; ComponentLink1Description: Manufacturer; ComponentLink1URL: http://www.we-online.de; ComponentLink2Description: Datasheet; ComponentLink2URL: https://www.we-online.com/catalog/datasheet/885012208011.pdf; Operating Temperature: -55 to +125degC; Packaging: Tape and Reel; Published Date: May 2020; Ceramic Type: X7R; Dissipation Factor: =<5%; Height: 1.15mm; Mounting Technology: SMT; Size: 1206; Capacitance: 470nF
footprint WCAP-CSGP_1206_H=1.15mm
pins: 1, 2

## 885012208012
designator C?, comment 680nF, 10V
WCAP-CSGP Multilayer Ceramic Chip Capacitor, General Purpose, size 1206, X7R, 680nF, 10V; Manufacturer Part Number: 885012208012; Manufacturer: Wurth Elektronik; Rated Voltage: 10VDC; Isolation Resistance: >=0.7GOhm; Capacitance Tolerance: +/-10%; Technical Reference: X7R1206684K010DFCT10000; ComponentLink1Description: Manufacturer; ComponentLink1URL: http://www.we-online.de; ComponentLink2Description: Datasheet; ComponentLink2URL: https://www.we-online.com/catalog/datasheet/885012208012.pdf; Operating Temperature: -55 to +125degC; Packaging: Tape and Reel; Published Date: May 2020; Ceramic Type: X7R; Dissipation Factor: =<5%; Height: 1.15mm; Mounting Technology: SMT; Size: 1206; Capacitance: 680nF
footprint WCAP-CSGP_1206_H=1.15mm
pins: 1, 2

## 885012208013
designator C?, comment 1uF, 10V
WCAP-CSGP Multilayer Ceramic Chip Capacitor, General Purpose, size 1206, X7R, 1uF, 10V; Manufacturer Part Number: 885012208013; Manufacturer: Wurth Elektronik; Rated Voltage: 10VDC; Isolation Resistance: >=0.5GOhm; Capacitance Tolerance: +/-10%; Technical Reference: X7R1206105K010DFCT10000; ComponentLink1Description: Manufacturer; ComponentLink1URL: http://www.we-online.de; ComponentLink2Description: Datasheet; ComponentLink2URL: https://www.we-online.com/catalog/datasheet/885012208013.pdf; Operating Temperature: -55 to +125degC; Packaging: Tape and Reel; Published Date: May 2020; Ceramic Type: X7R; Dissipation Factor: =<5%; Height: 1.15mm; Mounting Technology: SMT; Size: 1206; Capacitance: 1uF
footprint WCAP-CSGP_1206_H=1.15mm
pins: 1, 2

## 885012208014
designator C?, comment 1.5uF, 10V
WCAP-CSGP Multilayer Ceramic Chip Capacitor, General Purpose, size 1206, X7R, 1.5uF, 10V; Manufacturer Part Number: 885012208014; Manufacturer: Wurth Elektronik; Rated Voltage: 10VDC; Isolation Resistance: >=0.3GOhm; Capacitance Tolerance: +/-10%; Technical Reference: X7R1206155K010DFCT10000; ComponentLink1Description: Manufacturer; ComponentLink1URL: http://www.we-online.de; ComponentLink2Description: Datasheet; ComponentLink2URL: https://www.we-online.com/catalog/datasheet/885012208014.pdf; Operating Temperature: -55 to +125degC; Packaging: Tape and Reel; Published Date: May 2020; Ceramic Type: X7R; Dissipation Factor: =<5%; Height: 1.15mm; Mounting Technology: SMT; Size: 1206; Capacitance: 1.5uF
footprint WCAP-CSGP_1206_H=1.15mm
pins: 1, 2

## 885012208015
designator C?, comment 2.2uF, 10V
WCAP-CSGP Multilayer Ceramic Chip Capacitor, General Purpose, size 1206, X7R, 2.2uF, 10V; Manufacturer Part Number: 885012208015; Manufacturer: Wurth Elektronik; Rated Voltage: 10VDC; Isolation Resistance: >=0.2GOhm; Capacitance Tolerance: +/-10%; Technical Reference: X7R1206225K010DFCT10000; ComponentLink1Description: Manufacturer; ComponentLink1URL: http://www.we-online.de; ComponentLink2Description: Datasheet; ComponentLink2URL: https://www.we-online.com/catalog/datasheet/885012208015.pdf; Operating Temperature: -55 to +125degC; Packaging: Tape and Reel; Published Date: May 2020; Ceramic Type: X7R; Dissipation Factor: =<10%; Height: 1.15mm; Mounting Technology: SMT; Size: 1206; Capacitance: 2.2uF
footprint WCAP-CSGP_1206_H=1.15mm
pins: 1, 2

## 885012208016
designator C?, comment 3.3uF, 10V
WCAP-CSGP Multilayer Ceramic Chip Capacitor, General Purpose, size 1206, X7R, 3.3uF, 10V; Manufacturer Part Number: 885012208016; Manufacturer: Wurth Elektronik; Rated Voltage: 10VDC; Isolation Resistance: >=0.2GOhm; Capacitance Tolerance: +/-10%; Technical Reference: X7R1206335K010DFCT10000; ComponentLink1Description: Manufacturer; ComponentLink1URL: http://www.we-online.de; ComponentLink2Description: Datasheet; ComponentLink2URL: https://www.we-online.com/catalog/datasheet/885012208016.pdf; Operating Temperature: -55 to +125degC; Packaging: Tape and Reel; Published Date: May 2020; Ceramic Type: X7R; Dissipation Factor: =<10%; Height: 1.6mm; Mounting Technology: SMT; Size: 1206; Capacitance: 3.3uF
footprint WCAP-CSGP_1206_H=1.6mm
pins: 1, 2

## 885012208017
designator C?, comment 4.7uF, 10V
WCAP-CSGP Multilayer Ceramic Chip Capacitor, General Purpose, size 1206, X7R, 4.7uF, 10V; Manufacturer Part Number: 885012208017; Manufacturer: Wurth Elektronik; Rated Voltage: 10VDC; Isolation Resistance: >=0.02GOhm; Capacitance Tolerance: +/-10%; Technical Reference: X7R1206475K010DFCT10000; ComponentLink1Description: Manufacturer; ComponentLink1URL: http://www.we-online.de; ComponentLink2Description: Datasheet; ComponentLink2URL: https://www.we-online.com/catalog/datasheet/885012208017.pdf; Operating Temperature: -55 to +125degC; Packaging: Tape and Reel; Published Date: May 2020; Ceramic Type: X7R; Dissipation Factor: =<10%; Height: 1.6mm; Mounting Technology: SMT; Size: 1206; Capacitance: 4.7uF
footprint WCAP-CSGP_1206_H=1.6mm
pins: 1, 2

## 885012208018
designator C?, comment 10uF, 10V
WCAP-CSGP Multilayer Ceramic Chip Capacitor, General Purpose, size 1206, X7R, 10uF, 10V; Manufacturer Part Number: 885012208018; Manufacturer: Wurth Elektronik; Rated Voltage: 10VDC; Isolation Resistance: >=0.01GOhm; Capacitance Tolerance: +/-10%; Technical Reference: X7R1206106K010DFCT10000; ComponentLink1Description: Manufacturer; ComponentLink1URL: http://www.we-online.de; ComponentLink2Description: Datasheet; ComponentLink2URL: https://www.we-online.com/catalog/datasheet/885012208018.pdf; Operating Temperature: -55 to +125degC; Packaging: Tape and Reel; Published Date: May 2020; Ceramic Type: X7R; Dissipation Factor: =<10%; Height: 1.6mm; Mounting Technology: SMT; Size: 1206; Capacitance: 10uF
footprint WCAP-CSGP_1206_H=1.6mm
pins: 1, 2

## 885012208019
designator C?, comment 22uF, 10V
WCAP-CSGP Multilayer Ceramic Chip Capacitor, General Purpose, size 1206, X7R, 22uF, 10V; Manufacturer Part Number: 885012208019; Manufacturer: Wurth Elektronik; Rated Voltage: 10VDC; Isolation Resistance: >=0.005GOhm; Capacitance Tolerance: +/-10%; Technical Reference: X7R1206226K010DFCT10000; ComponentLink1Description: Manufacturer; ComponentLink1URL: http://www.we-online.de; ComponentLink2Description: Datasheet; ComponentLink2URL: https://www.we-online.com/catalog/datasheet/885012208019.pdf; Operating Temperature: -55 to +125degC; Packaging: Tape and Reel; Published Date: May 2020; Ceramic Type: X7R; Dissipation Factor: =<10%; Height: 1.6mm; Mounting Technology: SMT; Size: 1206; Capacitance: 22uF
footprint WCAP-CSGP_1206_H=1.6mm
pins: 1, 2

## 885012208020
designator C?, comment 220pF, 16V
WCAP-CSGP Multilayer Ceramic Chip Capacitor, General Purpose, size 1206, X7R, 220pF, 16V; Manufacturer Part Number: 885012208020; Manufacturer: Wurth Elektronik; Rated Voltage: 16VDC; Isolation Resistance: >=10GOhm; Capacitance Tolerance: +/-10%; Technical Reference: X7R1206221K016DFCT10000; ComponentLink1Description: Manufacturer; ComponentLink1URL: http://www.we-online.de; ComponentLink2Description: Datasheet; ComponentLink2URL: https://www.we-online.com/catalog/datasheet/885012208020.pdf; Operating Temperature: -55 to +125degC; Packaging: Tape and Reel; Published Date: May 2020; Ceramic Type: X7R; Dissipation Factor: =<3.5%; Height: 0.8mm; Mounting Technology: SMT; Size: 1206; Capacitance: 220pF
footprint WCAP-CSGP_1206_H=0.8mm
pins: 1, 2

## 885012208021
designator C?, comment 470pF, 16V
WCAP-CSGP Multilayer Ceramic Chip Capacitor, General Purpose, size 1206, X7R, 470pF, 16V; Manufacturer Part Number: 885012208021; Manufacturer: Wurth Elektronik; Rated Voltage: 16VDC; Isolation Resistance: >=10GOhm; Capacitance Tolerance: +/-10%; Technical Reference: X7R1206471K016DFCT10000; ComponentLink1Description: Manufacturer; ComponentLink1URL: http://www.we-online.de; ComponentLink2Description: Datasheet; ComponentLink2URL: https://www.we-online.com/catalog/datasheet/885012208021.pdf; Operating Temperature: -55 to +125degC; Packaging: Tape and Reel; Published Date: May 2020; Ceramic Type: X7R; Dissipation Factor: =<3.5%; Height: 0.8mm; Mounting Technology: SMT; Size: 1206; Capacitance: 470pF
footprint WCAP-CSGP_1206_H=0.8mm
pins: 1, 2

## 885012208022
designator C?, comment 1nF, 16V
WCAP-CSGP Multilayer Ceramic Chip Capacitor, General Purpose, size 1206, X7R, 1nF, 16V; Manufacturer Part Number: 885012208022; Manufacturer: Wurth Elektronik; Rated Voltage: 16VDC; Isolation Resistance: >=10GOhm; Capacitance Tolerance: +/-10%; Technical Reference: X7R1206102K016DFCT10000; ComponentLink1Description: Manufacturer; ComponentLink1URL: http://www.we-online.de; ComponentLink2Description: Datasheet; ComponentLink2URL: https://www.we-online.com/catalog/datasheet/885012208022.pdf; Operating Temperature: -55 to +125degC; Packaging: Tape and Reel; Published Date: May 2020; Ceramic Type: X7R; Dissipation Factor: =<3.5%; Height: 0.8mm; Mounting Technology: SMT; Size: 1206; Capacitance: 1nF
footprint WCAP-CSGP_1206_H=0.8mm
pins: 1, 2

## 885012208023
designator C?, comment 2.2nF, 16V
WCAP-CSGP Multilayer Ceramic Chip Capacitor, General Purpose, size 1206, X7R, 2.2nF, 16V; Manufacturer Part Number: 885012208023; Manufacturer: Wurth Elektronik; Rated Voltage: 16VDC; Isolation Resistance: >=10GOhm; Capacitance Tolerance: +/-10%; Technical Reference: X7R1206222K016DFCT10000; ComponentLink1Description: Manufacturer; ComponentLink1URL: http://www.we-online.de; ComponentLink2Description: Datasheet; ComponentLink2URL: https://www.we-online.com/catalog/datasheet/885012208023.pdf; Operating Temperature: -55 to +125degC; Packaging: Tape and Reel; Published Date: May 2020; Ceramic Type: X7R; Dissipation Factor: =<3.5%; Height: 0.8mm; Mounting Technology: SMT; Size: 1206; Capacitance: 2.2nF
footprint WCAP-CSGP_1206_H=0.8mm
pins: 1, 2

## 885012208024
designator C?, comment 3.3nF, 16V
WCAP-CSGP Multilayer Ceramic Chip Capacitor, General Purpose, size 1206, X7R, 3.3nF, 16V; Manufacturer Part Number: 885012208024; Manufacturer: Wurth Elektronik; Rated Voltage: 16VDC; Isolation Resistance: >=10GOhm; Capacitance Tolerance: +/-10%; Technical Reference: X7R1206332K016DFCT10000; ComponentLink1Description: Manufacturer; ComponentLink1URL: http://www.we-online.de; ComponentLink2Description: Datasheet; ComponentLink2URL: https://www.we-online.com/catalog/datasheet/885012208024.pdf; Operating Temperature: -55 to +125degC; Packaging: Tape and Reel; Published Date: May 2020; Ceramic Type: X7R; Dissipation Factor: =<3.5%; Height: 0.8mm; Mounting Technology: SMT; Size: 1206; Capacitance: 3.3nF
footprint WCAP-CSGP_1206_H=0.8mm
pins: 1, 2

## 885012208025
designator C?, comment 4.7pF, 16V
WCAP-CSGP Multilayer Ceramic Chip Capacitor, General Purpose, size 1206, X7R, 4.7pF, 16V; Manufacturer Part Number: 885012208025; Manufacturer: Wurth Elektronik; Rated Voltage: 16VDC; Isolation Resistance: >=10GOhm; Capacitance Tolerance: +/-10%; Technical Reference: X7R1206472K016DFCT10000; ComponentLink1Description: Manufacturer; ComponentLink1URL: http://www.we-online.de; ComponentLink2Description: Datasheet; ComponentLink2URL: https://www.we-online.com/catalog/datasheet/885012208025.pdf; Operating Temperature: -55 to +125degC; Packaging: Tape and Reel; Published Date: May 2020; Ceramic Type: X7R; Dissipation Factor: =<3.5%; Height: 0.8mm; Mounting Technology: SMT; Size: 1206; Capacitance: 4.7pF
footprint WCAP-CSGP_1206_H=0.8mm
pins: 1, 2